# EAGLE library part BEAGLEBONE (library mx4660-cape)
Should match A3 pinout - but not completely tested
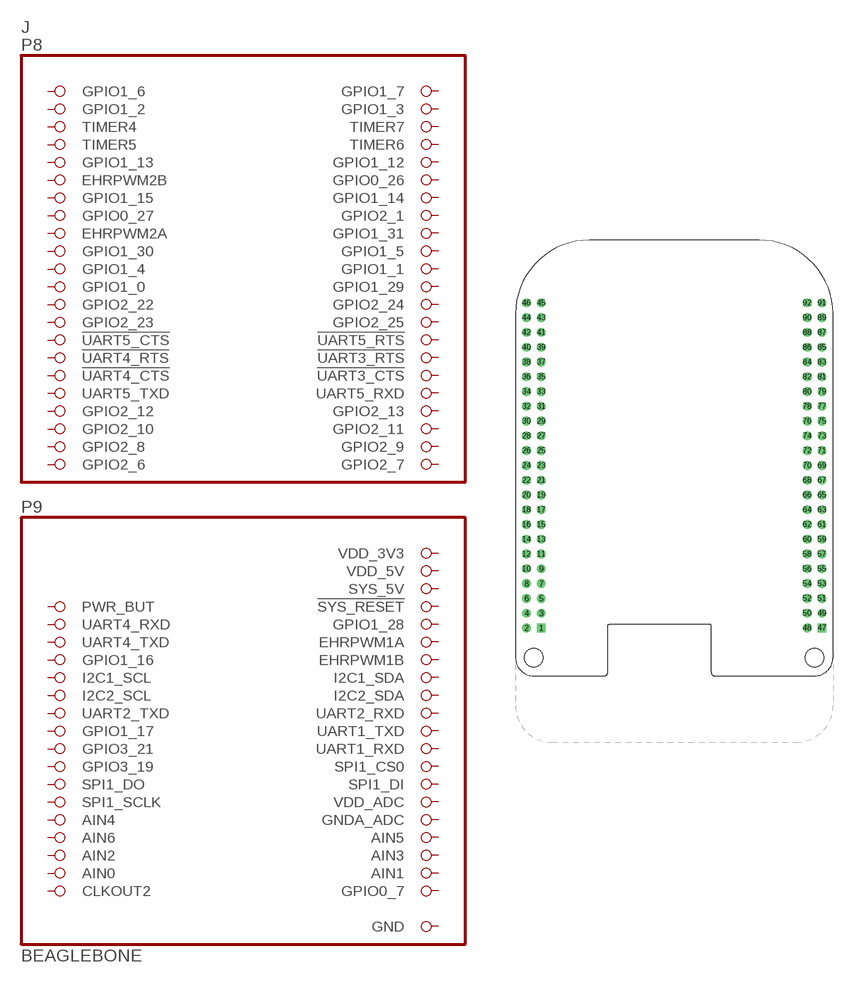
[diagram p1: symbol with the pads of BEAGLEBONE; footprint BEAGLEBONE]

Designator prefix J

## BEAGLEBONE  [BEAGLEBONE]
1  GND  pwr
2  GND  pwr
3  GPIO1_6  pas
4  GPIO1_7  pas
5  GPIO1_2  pas
6  GPIO1_3  pas
7  TIMER4  pas
8  TIMER7  pas
9  TIMER5  pas
10  TIMER6  pas
11  GPIO1_13  pas
12  GPIO1_12  pas
13  EHRPWM2B  pas
14  GPIO0_26  pas
15  GPIO1_15  pas
16  GPIO1_14  pas
17  GPIO0_27  pas
18  GPIO2_1  pas
19  EHRPWM2A  pas
20  GPIO1_31  pas
21  GPIO1_30  pas
22  GPIO1_5  pas
23  GPIO1_4  pas
24  GPIO1_1  pas
25  GPIO1_0  pas
26  GPIO1_29  pas
27  GPIO2_22  pas
28  GPIO2_24  pas
29  GPIO2_23  pas
30  GPIO2_25  pas
31  !UART5_CTS  pas
32  !UART5_RTS  pas
33  !UART4_RTS  pas
34  !UART3_RTS  pas
35  !UART4_CTS  pas
36  !UART3_CTS  pas
37  UART5_TXD  pas
38  UART5_RXD  pas
39  GPIO2_12  pas
40  GPIO2_13  pas
41  GPIO2_10  pas
42  GPIO2_11  pas
43  GPIO2_8  pas
44  GPIO2_9  pas
45  GPIO2_6  pas
46  GPIO2_7  pas
47  GND  pwr
48  GND  pwr
49  VDD_3V3  pwr
50  VDD_3V3  pwr
51  VDD_5V  pwr
52  VDD_5V  pwr
53  SYS_5V  pas
54  SYS_5V  pas
55  PWR_BUT  pas
56  !SYS_RESET  pas
57  UART4_RXD  pas
58  GPIO1_28  pas
59  UART4_TXD  pas
60  EHRPWM1A  pas
61  GPIO1_16  pas
62  EHRPWM1B  pas
63  I2C1_SCL  pas
64  I2C1_SDA  pas
65  I2C2_SCL  pas
66  I2C2_SDA  pas
67  UART2_TXD  pas
68  UART2_RXD  pas
69  GPIO1_17  pas
70  UART1_TXD  pas
71  GPIO3_21  pas
72  UART1_RXD  pas
73  GPIO3_19  pas
74  SPI1_CS0  pas
75  SPI1_DO  pas
76  SPI1_DI  pas
77  SPI1_SCLK  pas
78  VDD_ADC  pas
79  AIN4  pas
80  GNDA_ADC  pas
81  AIN6  pas
82  AIN5  pas
83  AIN2  pas
84  AIN3  pas
85  AIN0  pwr
86  AIN1  pas
87  CLKOUT2  in
88  GPIO0_7  pas
89  GND  pwr
90  GND  pwr
91  GND  pwr
92  GND  pwr

## Footprint BEAGLEBONE (pad centres in mm)
drill 1 square: 1 -50.165,19.685; 47 -1.905,19.685
drill 1: 2 -52.705,19.685; 3 -50.165,22.225; 4 -52.705,22.225; 5 -50.165,24.765; 6 -52.705,24.765; 7 -50.165,27.305; 8 -52.705,27.305; 9 -50.165,29.845; 10 -52.705,29.845; 11 -50.165,32.385; 12 -52.705,32.385; 13 -50.165,34.925; 14 -52.705,34.925; 15 -50.165,37.465; 16 -52.705,37.465; 17 -50.165,40.005; 18 -52.705,40.005; 19 -50.165,42.545; 20 -52.705,42.545; 21 -50.165,45.085; 22 -52.705,45.085; 23 -50.165,47.625; 24 -52.705,47.625; 25 -50.165,50.165; 26 -52.705,50.165; 27 -50.165,52.705; 28 -52.705,52.705; 29 -50.165,55.245; 30 -52.705,55.245; 31 -50.165,57.785; 32 -52.705,57.785; 33 -50.165,60.325; 34 -52.705,60.325; 35 -50.165,62.865; 36 -52.705,62.865; 37 -50.165,65.405; 38 -52.705,65.405; 39 -50.165,67.945; 40 -52.705,67.945; 41 -50.165,70.485; 42 -52.705,70.485; 43 -50.165,73.025; 44 -52.705,73.025; 45 -50.165,75.565; 46 -52.705,75.565; 48 -4.445,19.685; 49 -1.905,22.225; 50 -4.445,22.225; 51 -1.905,24.765; 52 -4.445,24.765; 53 -1.905,27.305; 54 -4.445,27.305; 55 -1.905,29.845; 56 -4.445,29.845; 57 -1.905,32.385; 58 -4.445,32.385; 59 -1.905,34.925; 60 -4.445,34.925; 61 -1.905,37.465; 62 -4.445,37.465; 63 -1.905,40.005; 64 -4.445,40.005; 65 -1.905,42.545; 66 -4.445,42.545; 67 -1.905,45.085; 68 -4.445,45.085; 69 -1.905,47.625; 70 -4.445,47.625; 71 -1.905,50.165; 72 -4.445,50.165; 73 -1.905,52.705; 74 -4.445,52.705; 75 -1.905,55.245; 76 -4.445,55.245; 77 -1.905,57.785; 78 -4.445,57.785; 79 -1.905,60.325; 80 -4.445,60.325; 81 -1.905,62.865; 82 -4.445,62.865; 83 -1.905,65.405; 84 -4.445,65.405; 85 -1.905,67.945; 86 -4.445,67.945; 87 -1.905,70.485; 88 -4.445,70.485; 89 -1.905,73.025; 90 -4.445,73.025; 91 -1.905,75.565; 92 -4.445,75.565
hole 3.175 at -51.435,14.605
hole 3.175 at -3.175,14.605